# EAGLE library part HEADER_J2 (library MICROCONTROLLER)
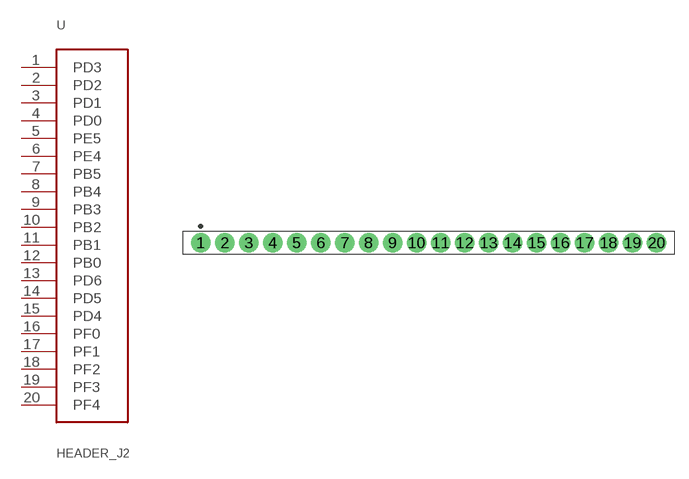
[diagram p4: symbol with the pads of HDRV20W80P254_1X20_5100X250X838B; footprint HDRV20W80P254_1X20_5100X250X838B]

Designator prefix -

## HEADER_J2  [HDRV20W80P254_1X20_5100X250X838B]
1  PD3
2  PD2
3  PD1
4  PD0
5  PE5
6  PE4
7  PB5
8  PB4
9  PB3
10  PB2
11  PB1
12  PB0
13  PD6
14  PD5
15  PD4
16  PF0
17  PF1
18  PF2
19  PF3
20  PF4

## Footprint HDRV20W80P254_1X20_5100X250X838B (pad centres in mm)
Single-row, 20-pin Pin Header (Male) Straight, 2.54 mm (0.10 in) col pitch, 5.84 mm mating length, 51.00 X 2.50 X 8.38 mm body Single-row (1X20), 20-pin Pin Header (Male) Straight package with 2.54 mm (0.10 in) col pitch, 0.80 mm lead width, 3.00 mm tail length and 5.84 mm mating length with overall size 51.00 X 2.50 X 8.38 mm, pin pattern - clockwise from top left
drill 1.143 pad 2.083: 1 0,0; 2 2.54,0; 3 5.08,0; 4 7.62,0; 5 10.16,0; 6 12.7,0; 7 15.24,0; 8 17.78,0; 9 20.32,0; 10 22.86,0; 11 25.4,0; 12 27.94,0; 13 30.48,0; 14 33.02,0; 15 35.56,0; 16 38.1,0; 17 40.64,0; 18 43.18,0; 19 45.72,0; 20 48.26,0